# Altium schematic symbol library ESP32.SchLib: 13 symbols
Pins are listed as number, name and electrical type; pins without a type are passive.

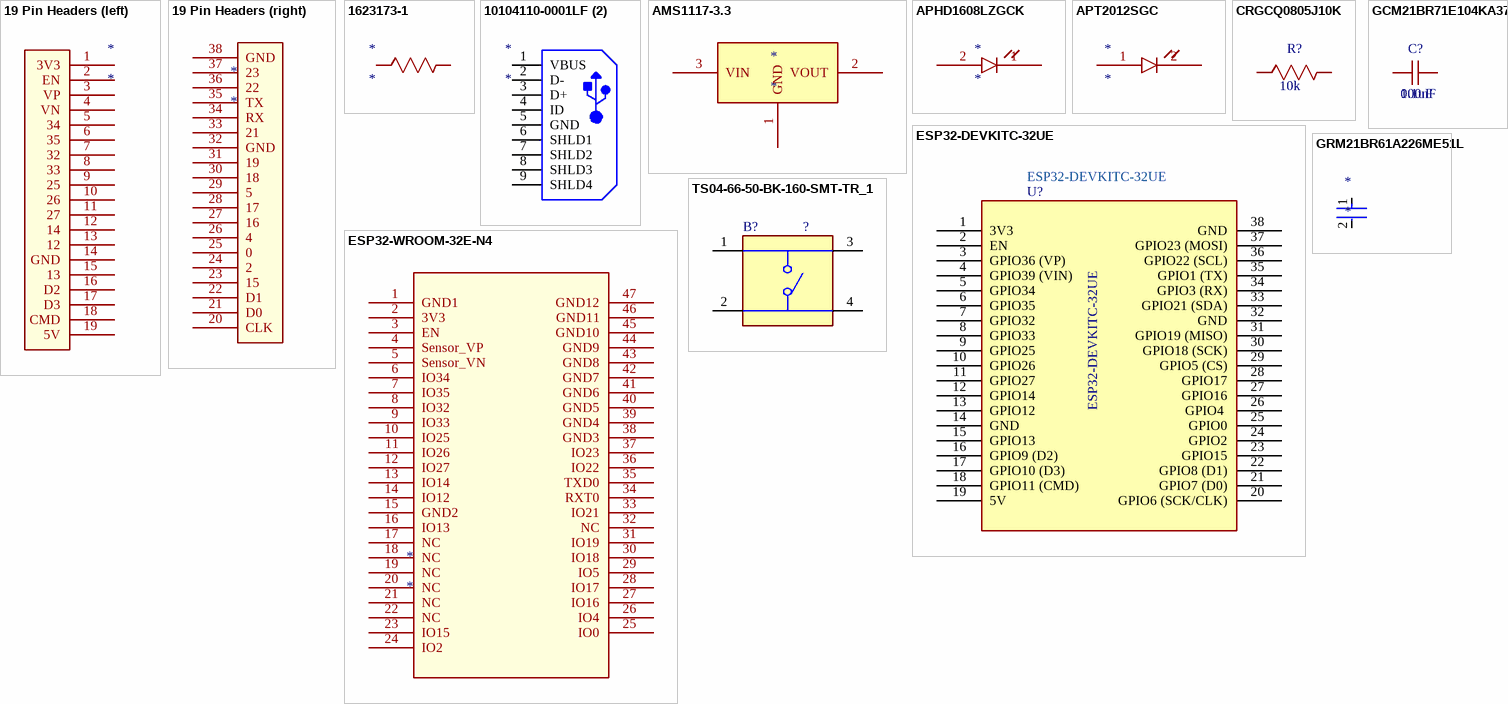
[diagram p0: symbols 19 Pin Headers (left) to TS04-66-50-BK-160-SMT-TR_1]

## 19 Pin Headers (left)
designator *
footprint 19 Pin headers
pins: 1 3V3, 2 EN, 3 VP, 4 VN, 5 34, 6 35, 7 32, 8 33, 9 25, 10 26, 11 27, 12 14, 13 12, 14 GND, 15 13, 16 D2, 17 D3, 18 CMD, 19 5V

## 19 Pin Headers (right)
designator *
footprint 19 Pin headers
pins: 20 CLK, 21 D0, 22 D1, 23 15, 24 2, 25 0, 26 4, 27 16, 28 17, 29 5, 30 18, 31 19, 32 GND, 33 21, 34 RX, 35 TX, 36 22, 37 23, 38 GND

## 1623173-1
designator *
Res Thick Film 0805 2K Ohm 1% 0.125W(1/8W) ±100ppm/C Pad SMD T/R; Manufacturer: TE Connectivity; Manufacturer Part Number: 1623173-1; Manufacturer Lifecycle Status: ACTIVE; Max Power Dissipation: 125mW; Number of Resistors: 1; Operating Supply Voltage: 150V; Value: 2kΩ; Temperature Coefficient: 100ppm/°C; Supplier: Newark; Supplier Part Number: 1623173-1; RoHS: Compliant; Category: Chip SMD Resistors; Stock: 75000; Pricing: 20000=0.005 (USD); Case/Package: 0805; Case Code (Imperial): 0805; Case Code (Metric): 2012; China RoHS: Non-Compliant; Composition: Thick Film; Depth: 1.25mm; ELV: Compliant; Height: 550µm; Length: 2mm; Lifecycle Status: Production; Max Operating Temperature: 155°C; Military Standard: Not; Min Operating Temperature: -55°C; Mounting Technology: Surface Mount; Number of Terminals: 2; Number of Terminations: 2; Packaging: Tape & Reel (TR); Power Dissipation: 125mW; Power Rating: 125mW; Radiation Hardening: No; REACH SVHC: Yes; Termination: Solder; Tolerance: 1%; Voltage Rating: 150V; Width: 1.25mm; Working Voltage: 150V; ComponentLink1URL: https://datasheet.octopart.com:443/CRG0805F2K0-TE-Connectivity-datasheet-167977698.pdf?src-supplier=IHS; ComponentLink1Description: https://datasheet.octopart.com:443/CRG0805F2K0-TE-Connectivity-datasheet-167977698.pdf?src-supplier=IHS; ComponentLink2URL: https://datasheet.octopart.com:443/1623173-1-TE-Connectivity---AMP-datasheet-11120284.pdf?src-supplier=Newark; ComponentLink2Description: https://datasheet.octopart.com:443/1623173-1-TE-Connectivity---AMP-datasheet-11120284.pdf?src-supplier=Newark; ComponentLink3URL: https://datasheet.octopart.com:443/1623173-1-TE-Connectivity---AMP-datasheet-44624597.pdf?src-supplier=Newark; ComponentLink3Description: https://datasheet.octopart.com:443/1623173-1-TE-Connectivity---AMP-datasheet-44624597.pdf?src-supplier=Newark; ComponentLink4URL: https://datasheet.octopart.com:443/1623173-1-TE-Connectivity---AMP-datasheet-128558484.pdf?src-supplier=Master+Electronics; ComponentLink4Description: https://datasheet.octopart.com:443/1623173-1-TE-Connectivity---AMP-datasheet-128558484.pdf?src-supplier=Master+Electronics; ComponentLink5URL: https://datasheet.octopart.com:443/1623173-1-TE-Connectivity---AMP-datasheet-189108518.pdf?src-supplier=Master+Electronics; ComponentLink5Description: https://datasheet.octopart.com:443/1623173-1-TE-Connectivity---AMP-datasheet-189108518.pdf?src-supplier=Master+Electronics; ComponentLink6URL: https://datasheet.octopart.com:443/1623173-1-TE-Connectivity-datasheet-14528760.pdf?src-supplier=TE+Connectivity; ComponentLink6Description: https://datasheet.octopart.com:443/1623173-1-TE-Connectivity-datasheet-14528760.pdf?src-supplier=TE+Connectivity; ComponentLink7URL: https://datasheet.octopart.com:443/CRG0805F2K0-Tyco-Electronics-datasheet-11120141.pdf?src-supplier=TE+Connectivity; ComponentLink7Description: https://datasheet.octopart.com:443/CRG0805F2K0-Tyco-Electronics-datasheet-11120141.pdf?src-supplier=TE+Connectivity; ComponentLink8URL: https://datasheet.octopart.com:443/1623173-1-TE-Connectivity-datasheet-177731334.pdf?src-supplier=Burklin+Elektronik; ComponentLink8Description: https://datasheet.octopart.com:443/1623173-1-TE-Connectivity-datasheet-177731334.pdf?src-supplier=Burklin+Elektronik; ComponentLink9URL: https://datasheet.octopart.com:443/CRG0805F2K0-TE-Connectivity-datasheet-137111065.pdf?src-supplier=X-ON; ComponentLink9Description: https://datasheet.octopart.com:443/CRG0805F2K0-TE-Connectivity-datasheet-137111065.pdf?src-supplier=X-ON; ComponentLink10URL: http://sigma.octopart.com:80/14528759/rohs_certificate/TE-Connectivity-CRG0805F2K0.pdf?src-supplier=Compliance+Statements; ComponentLink10Description: http://sigma.octopart.com:80/14528759/rohs_certificate/TE-Connectivity-CRG0805F2K0.pdf?src-supplier=Compliance+Statements; ComponentLink11URL: http://sigma.octopart.com:80/38872762/materials_sheet/TE-Connectivity-CRG0805F2K0.pdf?src-supplier=Compliance+Statements; ComponentLink11Description: http://sigma.octopart.com:80/38872762/materials_sheet/TE-Connectivity-CRG0805F2K0.pdf?src-supplier=Compliance+Statements; ComponentLink12URL: http://sigma.octopart.com:80/78339156/materials_sheet/TE-Connectivity-CRG0805F2K0.pdf?src-supplier=Compliance+Statements; ComponentLink12Description: http://sigma.octopart.com:80/78339156/materials_sheet/TE-Connectivity-CRG0805F2K0.pdf?src-supplier=Compliance+Statements
footprint FP-CRGCQ0805-IPC_A
pins: 1, 2

## 10104110-0001LF (2)
designator *
Usb Connector, 5 Contact(S), Female, Right Angle, Surface Mount Terminal, Locking, Receptacle; Manufacturer: Amphenol Communications Solutions; Manufacturer Part Number: 10104110-0001LF; Connector Type: Receptacle, USB; Contact Resistance: 10mΩ; Current Rating: 1.8A; Insulation Resistance: 100MΩ; Max Voltage Rating (AC): 100V; Number of Contacts: 5; Number of Ports: 1; Pitch: 650µm; Plating Thickness: 762nm; USB Standard: USB 2.0; Supplier: DigiKey; Supplier Part Number: 609-4052-1-ND; RoHS: Compliant; Category: USB Connectors; Stock: 9186; Pricing: 1=0.81, 10=0.687, 25=0.6436, 50=0.613, 100=0.5836, 250=0.547, 500=0.52088 (USD); China RoHS: Compliant; Contact Gender: Female; Contact Material: Gold, Nickel; Contact Plating: Gold; Depth: 5.6mm; Gender: Receptacle; Height: 2.99mm; Housing Material: Thermoplastic; Lead Free: Lead Free; Length: 8.06mm; Lifecycle Status: Production; Max Operating Temperature: 80°C; Min Operating Temperature: -55°C; Mounting Technology: Horizontal, Surface Mount; Pins: 5; Number of Positions: 5; Number of Rows: 1; Number of Terminals: 5; Orientation: Right Angle; Radiation Hardening: No; REACH SVHC: Yes; Shell Finish: Tin; Shell Material: Stainless Steel; Terminal Pitch: 660.4µm; Termination: Solder; Voltage Rating: 100V; ComponentLink1URL: https://datasheet.octopart.com:443/10104110-0001LF-Amphenol-Communications-Solutions-datasheet-96019471.pdf?src-supplier=element14+APAC; ComponentLink1Description: https://datasheet.octopart.com:443/10104110-0001LF-Amphenol-Communications-Solutions-datasheet-96019471.pdf?src-supplier=element14+APAC; ComponentLink2URL: https://datasheet.octopart.com:443/10104110-0001LF-Amphenol-Communications-Solutions-datasheet-11971448.pdf?src-supplier=IHS; ComponentLink2Description: https://datasheet.octopart.com:443/10104110-0001LF-Amphenol-Communications-Solutions-datasheet-11971448.pdf?src-supplier=IHS; ComponentLink3URL: https://datasheet.octopart.com:443/10104110-0001LF-Amphenol-Communications-Solutions-datasheet-13707371.pdf?src-supplier=Electro+Sonic; ComponentLink3Description: https://datasheet.octopart.com:443/10104110-0001LF-Amphenol-Communications-Solutions-datasheet-13707371.pdf?src-supplier=Electro+Sonic; ComponentLink4URL: https://datasheet.octopart.com:443/10104110-0001LF-Amphenol-Communications-Solutions-datasheet-13702204.pdf?src-supplier=RS+(Formerly+Allied+Electronics); ComponentLink4Description: https://datasheet.octopart.com:443/10104110-0001LF-Amphenol-Communications-Solutions-datasheet-13702204.pdf?src-supplier=RS+(Formerly+Allied+Electronics)
footprint FCI-10104110-0001LF_V (SMD, 5-Leads, Body 8.06x5.6mm, Pitch 0.65mm)
pins: 1 VBUS (power), 2 D-, 3 D+, 4 ID, 5 GND (power), 6 SHLD1, 7 SHLD2, 8 SHLD3, 9 SHLD4

## AMS1117-3.3
designator *
footprint AMS1117
pins: 1 GND, 2 VOUT, 3 VIN

## APHD1608LZGCK
designator *
Standard LEDs; SMD 0608 Compact Dome Lens LED; 1.6x0.8 mm; Green; (Cut Reel); Manufacturer: Kingbright; Manufacturer Part Number: APHD1608LZGCK; Forward Current: 20mA; Forward Voltage: 3.1V; Luminous Intensity: 50mcd; Max Junction Temperature (Tj): 110°C; Number of Circuits: 1; Peak Wavelength: 515nm; Power Dissipation: 82mW; Reverse Voltage: 5V; Shape: Round; Viewing Angle: 100°; Wavelength: 525nm; Supplier: DigiKey; Supplier Part Number: 754-2036-1-ND; RoHS: Compliant; Category: LEDs; Stock: 12024; Pricing: 1=0.67, 10=0.462, 100=0.3353, 500=0.27854, 1000=0.2599, 2000=0.24407 (USD); Case/Package: 0603; China RoHS: Compliant; Color: Green; Height: 650µm; Lifecycle Status: Production; Max Operating Temperature: 85°C; Min Operating Temperature: -40°C; Mounting Technology: Surface Mount; Number of Terminals: 2; REACH SVHC: Yes; Schedule B: 8541402000, 8541402000|8541402000|8541402000|8541402000|8541402000; Terminal Pitch: 1.3mm; ComponentLink1URL: https://datasheet.octopart.com:443/APHD1608LZGCK-Kingbright-datasheet-180516588.pdf?src-supplier=IHS; ComponentLink1Description: https://datasheet.octopart.com:443/APHD1608LZGCK-Kingbright-datasheet-180516588.pdf?src-supplier=IHS; ComponentLink2URL: https://datasheet.octopart.com:443/APHD1608LZGCK-Kingbright-datasheet-137333011.pdf?src-supplier=Upverter; ComponentLink2Description: https://datasheet.octopart.com:443/APHD1608LZGCK-Kingbright-datasheet-137333011.pdf?src-supplier=Upverter; ComponentLink3URL: https://datasheet.octopart.com:443/APHD1608LZGCK-Kingbright-datasheet-110729783.pdf?src-supplier=RS+(Formerly+Allied+Electronics); ComponentLink3Description: https://datasheet.octopart.com:443/APHD1608LZGCK-Kingbright-datasheet-110729783.pdf?src-supplier=RS+(Formerly+Allied+Electronics)
footprint FP-APHD1608LZGCK-MFG
pins: 1, 2

## APT2012SGC
designator *
2.0 X 1.25 MM SMD CHIP LED LAMP Single Color LED, Super Bright Green, Water Clear, 1.3mm; Manufacturer: Kingbright; Manufacturer Part Number: APT2012SGC; Value: 15pF; Dominant Wavelength: 568nm; Forward Current: 25mA; Forward Voltage: 2.2V; Lens Style: Clear, Flat; Luminous Intensity: 15mcd; Number of Circuits: 1; Peak Wavelength: 565nm; Power Rating: 62.5mW; Shape: Rectangular; Test Current: 20mA; Viewing Angle: 120°; Supplier: DigiKey; Supplier Part Number: 754-1131-1-ND; RoHS: Compliant; Category: LEDs; Stock: 273295; Pricing: 1=0.23, 10=0.155, 100=0.1081, 500=0.08668, 1000=0.07958 (USD); Case/Package: 0805; Case Code (Imperial): 0805; Case Code (Metric): 2012; China RoHS: Compliant; Color: Green; Height: 750µm; Illumination Color: Green; Lead Free: Lead Free; Length: 2mm; Lens Color: Clear; Lifecycle Status: Production; Max Operating Temperature: 85°C; Min Operating Temperature: -40°C; Mounting Technology: Surface Mount; Number of LEDs: 1; Pins: 2; Number of Terminals: 2; Packaging: Tape & Reel (TR); REACH SVHC: Yes; Schedule B: 8541402000, 8541402000|8541402000, 8541402000|8541402000|8541402000, 8541402000|8541402000|8541402000|8541402000; Terminal Pitch: 2.35mm; Wavelength: 568nm; Width: 1.25mm; ComponentLink1URL: https://datasheet.octopart.com:443/APT2012SGC-Kingbright-datasheet-180517418.pdf?src-supplier=IHS; ComponentLink1Description: https://datasheet.octopart.com:443/APT2012SGC-Kingbright-datasheet-180517418.pdf?src-supplier=IHS; ComponentLink2URL: https://datasheet.octopart.com:443/APT2012SGC-Kingbright-datasheet-158189.pdf?src-supplier=IHS; ComponentLink2Description: https://datasheet.octopart.com:443/APT2012SGC-Kingbright-datasheet-158189.pdf?src-supplier=IHS; ComponentLink3URL: https://datasheet.octopart.com:443/APT2012SGC-Kingbright-datasheet-8328492.pdf?src-supplier=Upverter; ComponentLink3Description: https://datasheet.octopart.com:443/APT2012SGC-Kingbright-datasheet-8328492.pdf?src-supplier=Upverter; ComponentLink4URL: https://datasheet.octopart.com:443/APT2012SGC-Kingbright-datasheet-150021467.pdf?src-supplier=Sager+Electronics; ComponentLink4Description: https://datasheet.octopart.com:443/APT2012SGC-Kingbright-datasheet-150021467.pdf?src-supplier=Sager+Electronics
footprint LED_APT2012SGC_KNB
pins: 1, 2

## CRGCQ0805J10K
designator R?, comment 10k
Res Thick Film 0805 10K Ohm 5% 0.125W(1/8W) ±100ppm/C Pad SMD Automotive T/R; Manufacturer: TE Connectivity; Manufacturer Part Number: CRGCQ0805J10K; Manufacturer Lifecycle Status: ACTIVE; Operating Supply Voltage: 150V; Power Dissipation: 125mW; Value: 10kΩ; Temperature Coefficient: 100ppm/°C; Supplier: DigiKey; Supplier Part Number: A130140CT-ND; RoHS: Compliant; Category: Chip SMD Resistors; Stock: 448725; Pricing: 1=0.1, 10=0.031, 25=0.0232, 50=0.0188, 100=0.0153, 250=0.01204, 500=0.01016, 1000=0.00868 (USD); Ambient Temperature Range High: 70°C; China RoHS: Non-Compliant; Composition: Thick Film; Height: 550µm; Lifecycle Status: Production; Max Operating Temperature: 155°C; Min Operating Temperature: -55°C; Mounting Technology: Surface Mount; Number of Terminals: 2; Packaging: Cut Tape; Power Rating: 125mW; REACH SVHC: Yes; Schedule B: 8533210025, 8533210025|8533210025|8533210025|8533210025|8533210025, 8533210045; Tolerance: 5%; Voltage Rating: 150V; Voltage Rating (DC): 150V; Width: 1.25mm; Working Voltage: 150V; ComponentLink1URL: https://datasheet.octopart.com:443/CRGCQ0805J10K-TE-Connectivity-datasheet-114679081.pdf?src-supplier=Master+Electronics; ComponentLink1Description: https://datasheet.octopart.com:443/CRGCQ0805J10K-TE-Connectivity-datasheet-114679081.pdf?src-supplier=Master+Electronics; ComponentLink2URL: https://datasheet.octopart.com:443/2-2176342-5-TE-Connectivity---AMP-datasheet-189108688.pdf?src-supplier=Master+Electronics; ComponentLink2Description: https://datasheet.octopart.com:443/2-2176342-5-TE-Connectivity---AMP-datasheet-189108688.pdf?src-supplier=Master+Electronics; ComponentLink3URL: https://datasheet.octopart.com:443/CRGCQ0805J10K-TE-Connectivity-datasheet-179161841.pdf?src-supplier=IHS; ComponentLink3Description: https://datasheet.octopart.com:443/CRGCQ0805J10K-TE-Connectivity-datasheet-179161841.pdf?src-supplier=IHS; ComponentLink4URL: https://sigma.octopart.com:443/114702769/technical_drawing/TE-Connectivity-CRGCQ0805J10K.pdf?src-supplier=Sager+Electronics; ComponentLink4Description: https://sigma.octopart.com:443/114702769/technical_drawing/TE-Connectivity-CRGCQ0805J10K.pdf?src-supplier=Sager+Electronics
footprint FP-CRGCQ0805-IPC_A
pins: 1, 2

## ESP32-DEVKITC-32UE
designator U?
ESP32-WROOM-32UE Series Evaluation Board 802.11 b/g/n (WiFi, WLAN) Bluetooth Smart Ready 4.x Dual Mode; Manufacturer: Espressif Systems; Supplier: DigiKey; Supplier Part Number: 1965-ESP32-DEVKITC-32UE-ND; Manufacturer Part Number: ESP32-DEVKITC-32UE; RoHS: Compliant; Category: NFC / RFID Components; Stock: 548; Pricing: 1=10 (USD); ComponentLink1URL: https://datasheet.octopart.com:443/ESP32-DEVKITC-32UE-Espressif-Systems-datasheet-165560559.pdf?src-supplier=TME; ComponentLink1Description: https://datasheet.octopart.com:443/ESP32-DEVKITC-32UE-Espressif-Systems-datasheet-165560559.pdf?src-supplier=TME; ComponentLink2URL: https://datasheet.octopart.com:443/ESP32-DEVKITC-32UE-Espressif-Systems-datasheet-147573221.pdf?src-supplier=TME; ComponentLink2Description: https://datasheet.octopart.com:443/ESP32-DEVKITC-32UE-Espressif-Systems-datasheet-147573221.pdf?src-supplier=TME; ComponentLink3URL: https://datasheet.octopart.com:443/ESP32-DEVKITC-32UE-Espressif-Systems-datasheet-151884363.pdf?src-supplier=Future+Electronics; ComponentLink3Description: https://datasheet.octopart.com:443/ESP32-DEVKITC-32UE-Espressif-Systems-datasheet-151884363.pdf?src-supplier=Future+Electronics
footprint ESP32
pins: 1 3V3, 2 EN, 3 GPIO36 (VP), 4 GPIO39 (VIN), 5 GPIO34, 6 GPIO35, 7 GPIO32, 8 GPIO33, 9 GPIO25, 10 GPIO26, 11 GPIO27, 12 GPIO14, 13 GPIO12, 14 GND, 15 GPIO13, 16 GPIO9 (D2), 17 GPIO10 (D3), 18 GPIO11 (CMD), 19 5V, 20 GPIO6 (SCK/CLK), 21 GPIO7 (D0), 22 GPIO8 (D1), 23 GPIO15, 24 GPIO2, 25 GPIO0, 26 GPIO4 , 27 GPIO16, 28 GPIO17, 29 GPIO5 (CS), 30 GPIO18 (SCK), 31 GPIO19 (MISO), 32 GND, 33 GPIO21 (SDA), 34 GPIO3 (RX), 35 GPIO1 (TX), 36 GPIO22 (SCL), 37 GPIO23 (MOSI), 38 GND

## ESP32-WROOM-32E-N4
designator *
WLAN+BT Module 2412MHz to 2484MHz 47-Pin SMD Module; Manufacturer: Espressif Systems; Manufacturer Part Number: ESP32-WROOM-32E-N4; Max Supply Voltage: 3.6V; Min Supply Voltage: 3V; Operating Supply Voltage: 3.3V; Supplier: DigiKey; Supplier Part Number: 1965-ESP32-WROOM-32E-N4CT-ND; RoHS: Compliant; Category: RF Transceiver Modules and Modems; Stock: 39100; Pricing: 1=4.84, 10=4.189, 25=3.9612, 100=3.649, 250=3.46184 (USD); Height - Seated (Max): 3.25mm; Length: 25.5mm; Max Operating Temperature: 85°C; Min Operating Temperature: -40°C; Number of Terminals: 38; REACH SVHC: Yes; Terminal Pitch: 1.27mm; Width: 18mm; ComponentLink1URL: https://datasheet.octopart.com:443/ESP32-WROOM-32E-N4-Espressif-Systems-datasheet-182247776.pdf?src-supplier=IHS; ComponentLink1Description: https://datasheet.octopart.com:443/ESP32-WROOM-32E-N4-Espressif-Systems-datasheet-182247776.pdf?src-supplier=IHS; ComponentLink2URL: https://datasheet.octopart.com:443/ESP32-WROOM-32E-N4-Espressif-Systems-datasheet-188867343.pdf?src-supplier=TME; ComponentLink2Description: https://datasheet.octopart.com:443/ESP32-WROOM-32E-N4-Espressif-Systems-datasheet-188867343.pdf?src-supplier=TME; ComponentLink3URL: https://datasheet.octopart.com:443/ESP32-WROOM-32E-N4-Espressif-Systems-datasheet-165560559.pdf?src-supplier=TME; ComponentLink3Description: https://datasheet.octopart.com:443/ESP32-WROOM-32E-N4-Espressif-Systems-datasheet-165560559.pdf?src-supplier=TME; ComponentLink4URL: https://datasheet.octopart.com:443/ESP32-WROOM-32E-N4-Espressif-Systems-datasheet-151884363.pdf?src-supplier=Future+Electronics; ComponentLink4Description: https://datasheet.octopart.com:443/ESP32-WROOM-32E-N4-Espressif-Systems-datasheet-151884363.pdf?src-supplier=Future+Electronics
footprint ESP32­WROOM­32E_EXP
pins: 1 GND1, 2 3V3, 3 EN, 4 Sensor_VP, 5 Sensor_VN, 6 IO34, 7 IO35, 8 IO32, 9 IO33, 10 IO25, 11 IO26, 12 IO27, 13 IO14, 14 IO12, 15 GND2, 16 IO13, 17 NC, 18 NC, 19 NC, 20 NC, 21 NC, 22 NC, 23 IO15, 24 IO2, 25 IO0, 26 IO4, 27 IO16, 28 IO17, 29 IO5, 30 IO18, 31 IO19, 32 NC, 33 IO21, 34 RXT0, 35 TXD0, 36 IO22, 37 IO23, 38 GND3, 39 GND4, 40 GND5, 41 GND6, 42 GND7, 43 GND8, 44 GND9, 45 GND10, 46 GND11, 47 GND12

## GCM21BR71E104KA37L
designator C?, comment 100nF
Ceramic Capacitor, Ceramic, 25V, 10% +Tol, 10% -Tol, X7R, 15% TC, 0.1uF, Surface Mount, 0805; Manufacturer: Murata; Manufacturer Part Number: GCM21BR71E104KA37L; Manufacturer Lifecycle Status: NRND; Supplier: DigiKey; Supplier Part Number: 490-14779-1-ND; RoHS: Compliant; Category: Ceramic Capacitors; Stock: 12316; Pricing: 1=0.35, 10=0.208, 50=0.1528, 100=0.1358, 500=0.10726, 1000=0.09846 (USD); Value: 100nF; Case/Package: 0805; Case Code (Imperial): 0805; Case Code (Metric): 2012; Depth: 1.25mm; Dielectric: X7R; Dielectric Material: Ceramic; Height: 1.25mm; Length: 2mm; Lifecycle Status: NRND; Max Operating Temperature: 125°C; Min Operating Temperature: -55°C; Mounting Technology: Surface Mount; Number of Terminals: 2; Radiation Hardening: No; Ratings: AEC-Q200; REACH SVHC: Yes; Schedule B: 8532240020, 8532240020|8532240020|8532240020|8532240020|8532240020; Termination: SMD/SMT; Tolerance: 10%; Voltage Rating: 25V; Voltage Rating (DC): 25V; Width: 1.25mm; ComponentLink1URL: https://datasheet.octopart.com:443/GCM21BR71E104KA37L-Murata-datasheet-141268656.pdf?src-supplier=Geoflip; ComponentLink1Description: https://datasheet.octopart.com:443/GCM21BR71E104KA37L-Murata-datasheet-141268656.pdf?src-supplier=Geoflip; ComponentLink2URL: https://datasheet.octopart.com:443/GCM21BR71E104KA37L-Murata-datasheet-140660253.pdf?src-supplier=Ciiva; ComponentLink2Description: https://datasheet.octopart.com:443/GCM21BR71E104KA37L-Murata-datasheet-140660253.pdf?src-supplier=Ciiva; ComponentLink3URL: https://datasheet.octopart.com:443/GCM21BR71E104KA37L-Murata-datasheet-138719617.pdf?src-supplier=Ciiva; ComponentLink3Description: https://datasheet.octopart.com:443/GCM21BR71E104KA37L-Murata-datasheet-138719617.pdf?src-supplier=Ciiva; ComponentLink4URL: https://datasheet.octopart.com:443/GCM21BR71E104KA37L-Murata-datasheet-128592896.pdf?src-supplier=X-ON; ComponentLink4Description: https://datasheet.octopart.com:443/GCM21BR71E104KA37L-Murata-datasheet-128592896.pdf?src-supplier=X-ON; ComponentLink5URL: https://datasheet.octopart.com/GCM21BR71E104KA37L-Murata-datasheet-14404970.pdf; ComponentLink5Description: https://datasheet.octopart.com/GCM21BR71E104KA37L-Murata-datasheet-14404970.pdf; ComponentLink6URL: http://sigma.octopart.com:80/reach_statement/Murata-company-16.pdf?src-supplier=Compliance+Statements; ComponentLink6Description: http://sigma.octopart.com:80/reach_statement/Murata-company-16.pdf?src-supplier=Compliance+Statements
footprint CAPC2013X140X45ML15T25 (Chip Capacitor, 2-Leads, Body 2.00x1.25mm, IPC Low Density)
pins: 1, 2
text: 0.1uF

## GRM21BR61A226ME51L
designator *
0805 22 uF 10 V ±20% Tolerance X5R SMT Multilayer Ceramic Capacitor; Manufacturer: Murata; Manufacturer Part Number: GRM21BR61A226ME51L; Manufacturer Lifecycle Status: IN PRODUCTION; Value: 22µF; Voltage Rating: 10V; Supplier: DigiKey; Supplier Part Number: 490-10511-1-ND; RoHS: Compliant; Category: Ceramic Capacitors; Stock: 246273; Pricing: 1=0.19, 10=0.111, 50=0.0788, 100=0.069, 500=0.0526, 1000=0.04756 (USD); Case/Package: 0805; Case Code (Imperial): 0805; Case Code (Metric): 2012; Depth: 1.25mm; Dielectric: X5R; Dielectric Material: Ceramic; Height: 1.25mm; Lead Free: Lead Free; Length: 2mm; Lifecycle Status: Production; Material: Ceramic; Max Operating Temperature: 85°C; Min Operating Temperature: -55°C; Mounting Technology: Surface Mount; Number of Terminals: 2; Packaging: Cut Tape; Radiation Hardening: No; REACH SVHC: Yes; Schedule B: 8532240020, 8532240020|8532240020, 8532240020|8532240020|8532240020, 8532240020|8532240020|8532240020|8532240020; Termination: SMD/SMT; Thickness: 1.25mm; Tolerance: 20%; Voltage Rating (DC): 10V; Weight: 9.49709mg; Width: 1.25mm; ComponentLink1URL: https://datasheet.octopart.com:443/GRM21BR61A226ME51L-Murata-datasheet-46741949.pdf?src-supplier=element14+APAC; ComponentLink1Description: https://datasheet.octopart.com:443/GRM21BR61A226ME51L-Murata-datasheet-46741949.pdf?src-supplier=element14+APAC; ComponentLink2URL: https://datasheet.octopart.com:443/GRM21BR61A226ME51L-Murata-datasheet-141278167.pdf?src-supplier=Geoflip; ComponentLink2Description: https://datasheet.octopart.com:443/GRM21BR61A226ME51L-Murata-datasheet-141278167.pdf?src-supplier=Geoflip; ComponentLink3URL: https://datasheet.octopart.com:443/GRM21BR61A226ME51L-Murata-datasheet-165579666.pdf?src-supplier=TME; ComponentLink3Description: https://datasheet.octopart.com:443/GRM21BR61A226ME51L-Murata-datasheet-165579666.pdf?src-supplier=TME; ComponentLink4URL: https://datasheet.octopart.com:443/GRM21BR61A226ME51L-Murata-datasheet-81455648.pdf?src-supplier=TME; ComponentLink4Description: https://datasheet.octopart.com:443/GRM21BR61A226ME51L-Murata-datasheet-81455648.pdf?src-supplier=TME; ComponentLink5URL: https://datasheet.octopart.com:443/GRM21BR61A226ME51L-Murata-datasheet-140707522.pdf?src-supplier=Ciiva; ComponentLink5Description: https://datasheet.octopart.com:443/GRM21BR61A226ME51L-Murata-datasheet-140707522.pdf?src-supplier=Ciiva; ComponentLink6URL: https://datasheet.octopart.com:443/GRM21BR61A226ME51L-Murata-datasheet-138744834.pdf?src-supplier=Ciiva; ComponentLink6Description: https://datasheet.octopart.com:443/GRM21BR61A226ME51L-Murata-datasheet-138744834.pdf?src-supplier=Ciiva; ComponentLink7URL: https://datasheet.octopart.com:443/GRM21BR61A226ME51L-Murata-datasheet-22122223.pdf?src-supplier=Future+Electronics; ComponentLink7Description: https://datasheet.octopart.com:443/GRM21BR61A226ME51L-Murata-datasheet-22122223.pdf?src-supplier=Future+Electronics; ComponentLink8URL: https://datasheet.octopart.com/GRM21BR61A226ME51L-Murata-datasheet-12515295.pdf; ComponentLink8Description: https://datasheet.octopart.com/GRM21BR61A226ME51L-Murata-datasheet-12515295.pdf; ComponentLink9URL: https://datasheet.octopart.com/GRM21BR61A226ME51L-Murata-datasheet-12510076.pdf; ComponentLink9Description: https://datasheet.octopart.com/GRM21BR61A226ME51L-Murata-datasheet-12510076.pdf; ComponentLink10URL: https://datasheet.octopart.com/GRM21BR61A226ME51L-Murata-datasheet-11978611.pdf; ComponentLink10Description: https://datasheet.octopart.com/GRM21BR61A226ME51L-Murata-datasheet-11978611.pdf; ComponentLink11URL: https://datasheet.octopart.com/GRM21BR61A226ME51L-Murata-datasheet-10025737.pdf; ComponentLink11Description: https://datasheet.octopart.com/GRM21BR61A226ME51L-Murata-datasheet-10025737.pdf; ComponentLink12URL: https://datasheet.octopart.com/GRM21BR61A226ME51L-Murata-datasheet-8819587.pdf; ComponentLink12Description: https://datasheet.octopart.com/GRM21BR61A226ME51L-Murata-datasheet-8819587.pdf; ComponentLink13URL: https://datasheet.octopart.com/GRM21BR61A226ME51L-Murata-datasheet-14402366.pdf; ComponentLink13Description: https://datasheet.octopart.com/GRM21BR61A226ME51L-Murata-datasheet-14402366.pdf; ComponentLink14URL: http://sigma.octopart.com:80/reach_statement/Murata-company-16.pdf?src-supplier=Compliance+Statements; ComponentLink14Description: http://sigma.octopart.com:80/reach_statement/Murata-company-16.pdf?src-supplier=Compliance+Statements
footprint FP-GRM21B-0_15-IPC_A
pins: 1, 2

## TS04-66-50-BK-160-SMT-TR_1
designator B?, comment ?
6 x 6 mm, 5 mm Actuator Height, 160 gf, Black, Surface Mount, SPST, Tactile Switch; Manufacturer: Same Sky; Manufacturer Part Number: TS04-66-50-BK-160-SMT-TR; Number of Positions: 2; Supplier: DigiKey; Supplier Part Number: 2223-TS04-66-50-BK-160-SMT-TR-ND; RoHS: Compliant; Category: Tactile Switches; Pricing: 5000=0.10735 (USD); Lifecycle Status: Production; REACH SVHC: Yes; ComponentLink1URL: https://datasheet.octopart.com:443/TS04-66-50-BK-160-SMT-TR-Same-Sky-datasheet-183540778.pdf?src-supplier=Same+Sky; ComponentLink1Description: https://datasheet.octopart.com:443/TS04-66-50-BK-160-SMT-TR-Same-Sky-datasheet-183540778.pdf?src-supplier=Same+Sky; ComponentLink2URL: https://datasheet.octopart.com:443/TS04-66-50-BK-160-SMT-TR-Same-Sky-datasheet-181920469.pdf?src-supplier=Same+Sky; ComponentLink2Description: https://datasheet.octopart.com:443/TS04-66-50-BK-160-SMT-TR-Same-Sky-datasheet-181920469.pdf?src-supplier=Same+Sky; ComponentLink3URL: https://datasheet.octopart.com:443/TS04-66-50-BK-160-SMT-TR-CUI-Devices-datasheet-175928975.pdf?src-supplier=Same+Sky; ComponentLink3Description: https://datasheet.octopart.com:443/TS04-66-50-BK-160-SMT-TR-CUI-Devices-datasheet-175928975.pdf?src-supplier=Same+Sky; ComponentLink4URL: https://datasheet.octopart.com:443/TS04-66-50-BK-160-SMT-TR-CUI-Devices-datasheet-155929909.pdf?src-supplier=Same+Sky; ComponentLink4Description: https://datasheet.octopart.com:443/TS04-66-50-BK-160-SMT-TR-CUI-Devices-datasheet-155929909.pdf?src-supplier=Same+Sky; ComponentLink5URL: https://datasheet.octopart.com:443/TS04-66-50-BK-160-SMT-TR-CUI-Devices-datasheet-180438940.pdf?src-supplier=IHS; ComponentLink5Description: https://datasheet.octopart.com:443/TS04-66-50-BK-160-SMT-TR-CUI-Devices-datasheet-180438940.pdf?src-supplier=IHS; ComponentLink6URL: https://datasheet.octopart.com:443/TS04-66-50-BK-160-SMT-TR-Same-Sky-datasheet-182881590.pdf?src-supplier=Master+Electronics; ComponentLink6Description: https://datasheet.octopart.com:443/TS04-66-50-BK-160-SMT-TR-Same-Sky-datasheet-182881590.pdf?src-supplier=Master+Electronics; ComponentLink7URL: https://datasheet.octopart.com:443/TS04-66-50-BK-160-SMT-TR-Same-Sky-datasheet-189105765.pdf?src-supplier=Master+Electronics; ComponentLink7Description: https://datasheet.octopart.com:443/TS04-66-50-BK-160-SMT-TR-Same-Sky-datasheet-189105765.pdf?src-supplier=Master+Electronics; ComponentLink8URL: https://datasheet.octopart.com:443/TS04-66-50-BK-160-SMT-TR-Same-Sky-datasheet-188930959.pdf?src-supplier=TME; ComponentLink8Description: https://datasheet.octopart.com:443/TS04-66-50-BK-160-SMT-TR-Same-Sky-datasheet-188930959.pdf?src-supplier=TME; ComponentLink9URL: https://octopart.com:443/opatz8j6/c1?t=AHJHVxjaiIDIr6H_ItDqsJeDJqxcW_gJHqcHV2sr14xMipfx-HDzg_f0vkasGYHy5q-Btyt4jzHIYsIXAp8M-MkPAGFwjUVKwjpKunO9EjmQ9NoVu9p4HWs04ZXCmleWgcsYh-4RxiTzSsoULU2T2rz17cMXYYLK9_ziMcA7OGPXXbacYiPMCPpI60niI4dc0C9vNkjd65Jl5QkLrYSw83J7uaIpN8OeAtGX54ooF_yVEqS3W8UGSl3Fipt3e-uZfnOteh1ynDY5inV3vA_T2G7-jmG30-JmWZ9wvWQwyL_V03hDFAcYksLWHd1aRsOPWTbxvmd88SKpkAjFm5xu5x-cK5AUD6xUpAL7lh0xeIYzTPI4ZOg&src-supplier=Compliance+Statements; ComponentLink9Description: https://octopart.com:443/opatz8j6/c1?t=AHJHVxjaiIDIr6H_ItDqsJeDJqxcW_gJHqcHV2sr14xMipfx-HDzg_f0vkasGYHy5q-Btyt4jzHIYsIXAp8M-MkPAGFwjUVKwjpKunO9EjmQ9NoVu9p4HWs04ZXCmleWgcsYh-4RxiTzSsoULU2T2rz17cMXYYLK9_ziMcA7OGPXXbacYiPMCPpI60niI4dc0C9vNkjd65Jl5QkLrYSw83J7uaIpN8OeAtGX54ooF_yVEqS3W8UGSl3Fipt3e-uZfnOteh1ynDY5inV3vA_T2G7-jmG30-JmWZ9wvWQwyL_V03hDFAcYksLWHd1aRsOPWTbxvmd88SKpkAjFm5xu5x-cK5AUD6xUpAL7lh0xeIYzTPI4ZOg&src-supplier=Compliance+Statements; ComponentLink10URL: https://octopart.com:443/opatz8j6/c1?t=r1RK5IYUaob_85_1MSHGNq720LrhxWIvMn5DWdcJs86yyX1sCCzkutHExn9MWrIEn17t5vGoIZESqBBoujGJDEtnxSOKhQoF_HVCF4IjS0uNejDB1Hl06RViT7vLEqlS2nwCB_zZjOM2FBR17Cn3AygDXFz4irEFvfs5L25X4mfGCJscXkgX4qD28LidoQEhTj1XIrzkPBX_u6sUrCtXeGFsnQuDshvHBQ8JL4sZA9KNYQB46zrK0ZjbAVBq3PHdFimw1lZsdT1205N9iIZQ-sSyoeN1xzltvm_fFJtkrMx3uypwSCqRIIazHEyIss7CzzZHpr8HJ3IPX8N9BpeGudVq5MGf4iJVtCZae_yLFL5H-ssn_Jcg6fiM&src-supplier=Compliance+Statements; ComponentLink10Description: https://octopart.com:443/opatz8j6/c1?t=r1RK5IYUaob_85_1MSHGNq720LrhxWIvMn5DWdcJs86yyX1sCCzkutHExn9MWrIEn17t5vGoIZESqBBoujGJDEtnxSOKhQoF_HVCF4IjS0uNejDB1Hl06RViT7vLEqlS2nwCB_zZjOM2FBR17Cn3AygDXFz4irEFvfs5L25X4mfGCJscXkgX4qD28LidoQEhTj1XIrzkPBX_u6sUrCtXeGFsnQuDshvHBQ8JL4sZA9KNYQB46zrK0ZjbAVBq3PHdFimw1lZsdT1205N9iIZQ-sSyoeN1xzltvm_fFJtkrMx3uypwSCqRIIazHEyIss7CzzZHpr8HJ3IPX8N9BpeGudVq5MGf4iJVtCZae_yLFL5H-ssn_Jcg6fiM&src-supplier=Compliance+Statements; ComponentLink11URL: https://octopart.com:443/opatz8j6/c1?t=3BD6yHY4TMlPV1HdH1DfP3VwhdawlDk5uvE--lE0_OK2pMAHtXMzIWognZT8Kptg4hg-lGvkc8pM6295M0wnT2xUdro5X27lLiJF0vFSPDXW_Zl-47ruo4eQI3juyTTFsaQzGMRqd6HKVavC7jLqvg3e4wdyFRwHDNXvJFlQdNWuFbKytLsG4A2-4ydZK6E80O1irTcqN9MKGvI5XzA0YOv-CaSdIebfUu8zXvQJfIAIYzNrnKqCZgH7inlQIWZHKFLA1siN4vk2QxKmFGOy5iNd7qtG1c_EzzRGUuEk66hak1i00a4FRPnHP1sGNuLupUBDn3O7toNEWVdlsVQMt_vgglZqqjFBUsOjgP800DIecR_OMlE&src-supplier=Compliance+Statements; ComponentLink11Description: https://octopart.com:443/opatz8j6/c1?t=3BD6yHY4TMlPV1HdH1DfP3VwhdawlDk5uvE--lE0_OK2pMAHtXMzIWognZT8Kptg4hg-lGvkc8pM6295M0wnT2xUdro5X27lLiJF0vFSPDXW_Zl-47ruo4eQI3juyTTFsaQzGMRqd6HKVavC7jLqvg3e4wdyFRwHDNXvJFlQdNWuFbKytLsG4A2-4ydZK6E80O1irTcqN9MKGvI5XzA0YOv-CaSdIebfUu8zXvQJfIAIYzNrnKqCZgH7inlQIWZHKFLA1siN4vk2QxKmFGOy5iNd7qtG1c_EzzRGUuEk66hak1i00a4FRPnHP1sGNuLupUBDn3O7toNEWVdlsVQMt_vgglZqqjFBUsOjgP800DIecR_OMlE&src-supplier=Compliance+Statements; ComponentLink12URL: https://octopart.com:443/opatz8j6/c1?t=K3camy5c4Ucy_9yJ3KoVII-gY7VkFhW7P0bbZ5t4-ZUOrBjcTQp1Z0CfWV0BYFVb-fHwcr_lEptVhsKeusTQzSTvOQJoYc4MNj1Xi9Ce_YgscQjK650kyvQ9iLNiSq5mGOGzGFNePsfH6U4F6nSSG09sMoZOKXesSp3A9fEB81Ryg-V7UjN_ervOIvTSSU2pt4tfCkzqxWFsAWFQreVmjyuPQN_MUGuEn3zVyQx51WI-SEu-6b7QOUpGr0zjb-yB96bbP6EohUbR0VIhPKN-WK5D9Ild7BKF3VkdDbQsJZ5I28NoVyQVl5xozYnhRN5Qb2QQksLBhOvdnNRmi85i763lg0Pnr8-dc4-8tEY2vuhnMptderCnXY8-&src-supplier=Compliance+Statements; ComponentLink12Description: https://octopart.com:443/opatz8j6/c1?t=K3camy5c4Ucy_9yJ3KoVII-gY7VkFhW7P0bbZ5t4-ZUOrBjcTQp1Z0CfWV0BYFVb-fHwcr_lEptVhsKeusTQzSTvOQJoYc4MNj1Xi9Ce_YgscQjK650kyvQ9iLNiSq5mGOGzGFNePsfH6U4F6nSSG09sMoZOKXesSp3A9fEB81Ryg-V7UjN_ervOIvTSSU2pt4tfCkzqxWFsAWFQreVmjyuPQN_MUGuEn3zVyQx51WI-SEu-6b7QOUpGr0zjb-yB96bbP6EohUbR0VIhPKN-WK5D9Ild7BKF3VkdDbQsJZ5I28NoVyQVl5xozYnhRN5Qb2QQksLBhOvdnNRmi85i763lg0Pnr8-dc4-8tEY2vuhnMptderCnXY8-&src-supplier=Compliance+Statements
footprint SW_TS04-66-43-BK-100-SMT
pins: 1, 2, 3, 4